# Altium schematic symbol library 0.1R SR732ATTDR100F.SchLib: 1 symbol
Pins are listed as number, name and electrical type; pins without a type are passive.

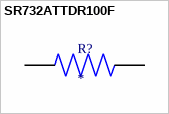
[diagram p0: symbol SR732ATTDR100F]

## SR732ATTDR100F
designator R?
MP: SR732ATTDR100F; Package: None; Price: None; Value: *; Availability: Unavailable
footprint RESC2012X60N
pins: 1, 2